# Altium schematic symbol library jumpers_and_circuit_brakers.SchLib: 6 symbols
Pins are listed as number, name and electrical type; pins without a type are passive.

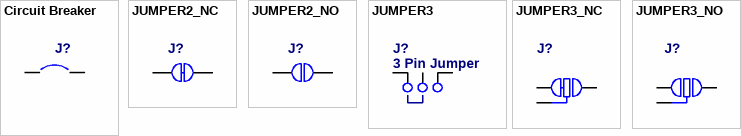
[diagram p0: symbols Circuit Breaker to JUMPER3_NO]

## Circuit Breaker
designator J?  (value not drawn)
Solder: NO; Published: 24-Mar-1999; Revision: July-2002: Re-released for DXP Platform.; Publisher: Altium Limited
footprint JMP2_0603_NC
footprint JMP2_0603_NO
pins: 1, 2
2 alternate drawings of the same symbol

## JUMPER2_NC
designator J?, comment Closed  (value not drawn)
Solder Jumper - Closed
footprint JMP2_0603_N_NC
footprint JMP2_0603_W_NC
footprint JMP2_0805_N_NC
footprint JMP2_0805_W_NC
footprint JMP2_0603_NC
footprint JMP2_0805_NC
pins: 1, 2

## JUMPER2_NO
designator J?, comment Open  (value not drawn)
Solder Jumper - Open
footprint JMP2_0603_N_NO
footprint JMP2_0603_W_NO
footprint JMP2_0805_N_NO
footprint JMP2_0805_W_NO
footprint JMP2_0603_NO
footprint JMP2_0805_NO
pins: 1, 2

## JUMPER3
designator J?, comment 3 Pin Jumper
footprint GP_3x1
footprint GP_3x1H
footprint GP_3x1H_2mm
footprint GP_3x1_2mm
pins: 1, 2, 3
2 alternate drawings of the same symbol

## JUMPER3_NC
designator J?, comment Closed  (value not drawn)
Solder Jumper - Closed
footprint JMP3_0603_N_NC
footprint JMP3_0603_W_NC
footprint JMP3_0805_N_NC
footprint JMP3_0805_W_NC
footprint JMP3_0603_NC
pins: 1, 2, 3
5 alternate drawings of the same symbol

## JUMPER3_NO
designator J?, comment Open  (value not drawn)
Solder Jumper - Open
footprint JMP3_0603_N_NO
footprint JMP3_0603_W_NO
footprint JMP3_0805_N_NO
footprint JMP3_0805_W_NO
footprint JMP3_0603_NO
pins: 1, 2, 3
5 alternate drawings of the same symbol